# Altium footprint library SOP.PcbLib: 50 footprints (part 1 of 4)
Each footprint in its own frame and in the unit in brackets; x right, y up, seen from the top. Pads: shape width x height; smd on the part's side, far side on the other; paste and mask are expansions set on the pad; w line width, h text height; cw(c..) or ccw(c..) is an arc to the next point about the centre after c.
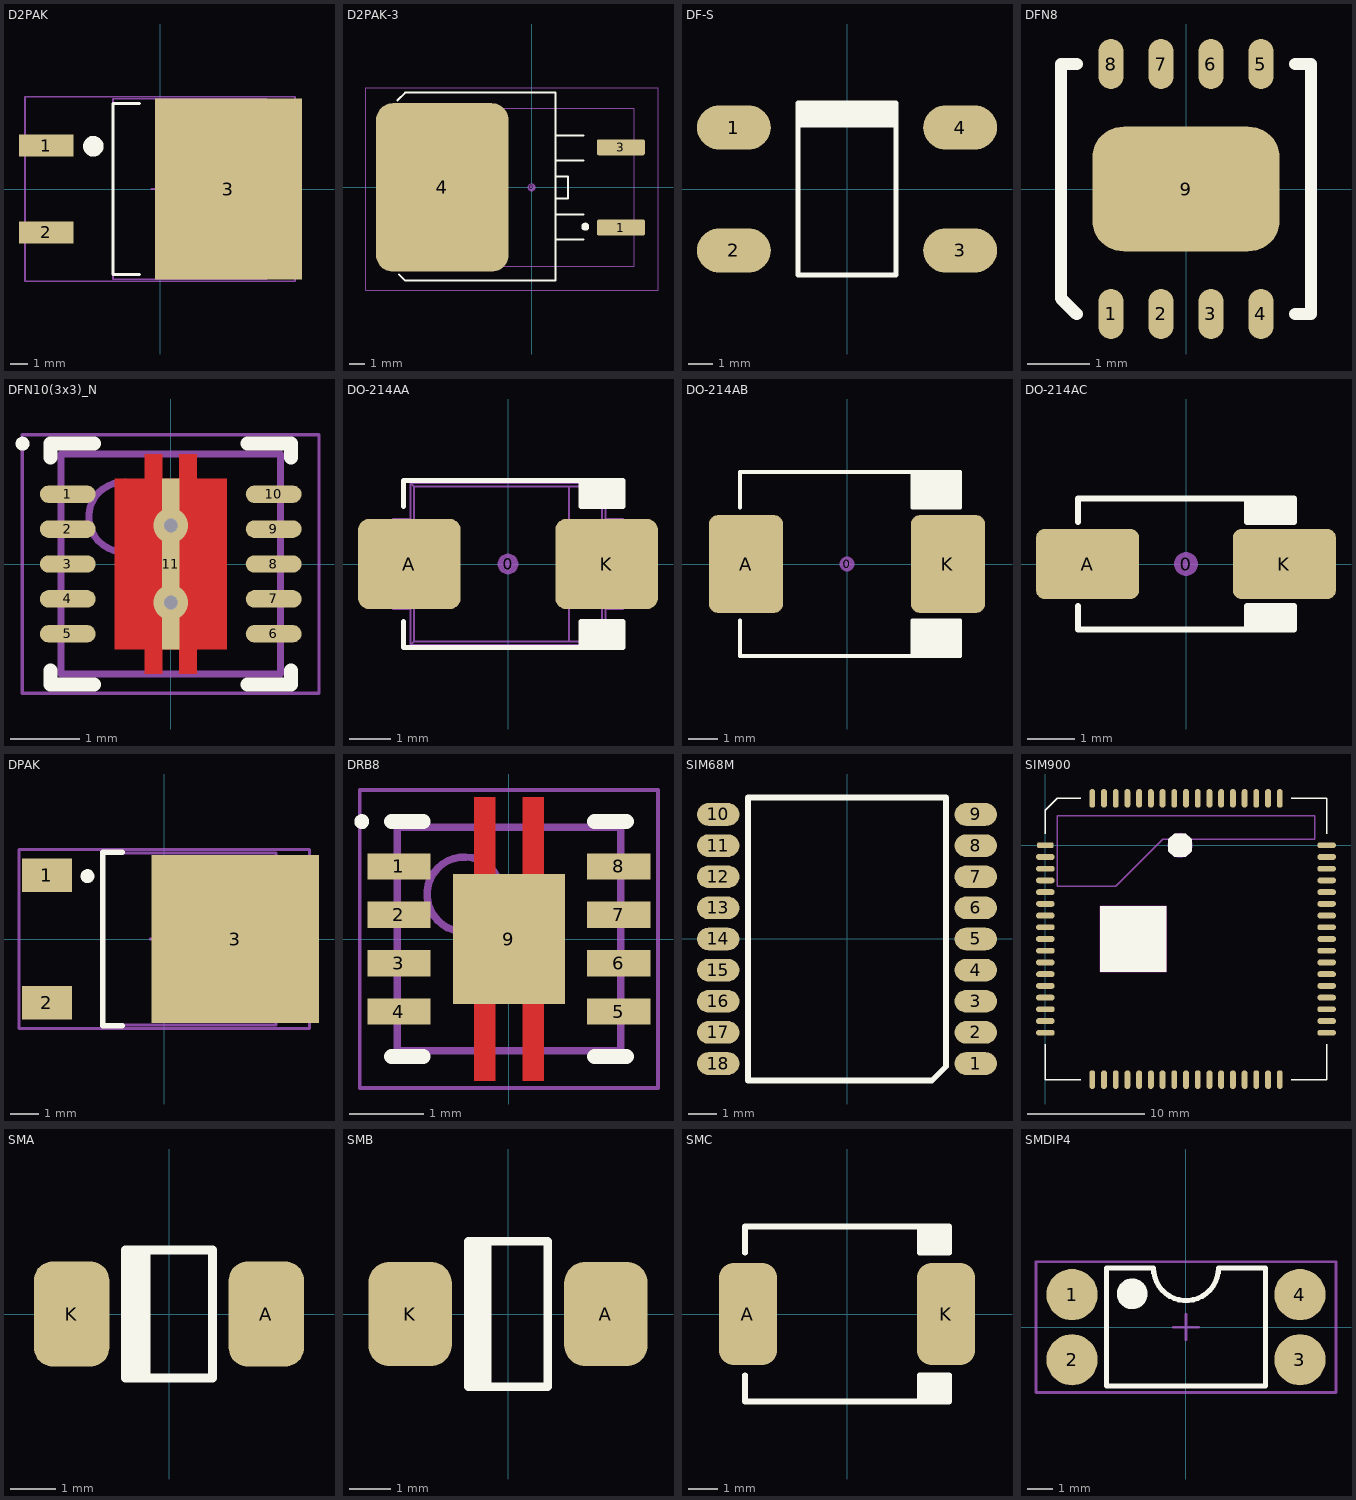
[diagram p0: the footprints below, top view; thin cyan lines are the x and y axes]

## D2PAK [mm] "D2-PAK, 4-Leads, Body 8.8x10.4mm, Pitch 2.54mm, Lead Span 15.1mm, IPC High Density"
height 4.69
pads (3):
  rect 3.2x1.3 smd: 1(-6.65,2.54) 2(-6.65,-2.54)
  rect 8.6x10.6 smd: 3(4,0)
Top Overlay:
  circle w0.6: c-3.9,2.5 r0.3
  lines w0.2: -1.2,-5 -2.75,-5 -2.75,5 -1.2,5
Mechanical 13:
  lines w0.1: -2.75,-5.275 6.25,-5.275 6.25,5.275 -2.75,5.275 -2.75,-5.275
Mechanical 15:
  lines w0.1: -0.5,0 0.5,0 ; 0,-0.5 0,0.5 ; -7.9,-5.4 7.9,-5.4 7.9,5.4 -7.9,5.4 -7.9,-5.4
3D body "SW3dPS-TO263-3S.STEP": height 4.81, standoff 0.01, extent -7.69,-5 7.98,5

## D2PAK-3 [mil] "D-PAK/TO-263-3; 3 Leads (1 Cropped); Body 14.7 (inc. leads) x 10.2 mm (LxW max)"
height 180
pads (4):
  round 20 on Mech15: 0(0,0)
  rrect25% 120x40 smd: 1(222.5,-100) 3(222.5,100)
  rrect25% 330x420 smd: 4(-222.5,0)
Top Overlay:
  circle w9.84: c133.8,-97.83 r4.92
  lines w5: -334.65,216.54 -314.96,236.22 59.06,236.22 59.06,-232.28 -314.96,-232.28 -330.71,-216.54 ; 129.92,-129.92 59.06,-129.92 59.06,-66.93 129.92,-66.93 ; 129.92,66.93 59.06,66.93 59.06,129.92 129.92,129.92 ; 59.06,-27.56 90.55,-27.56 90.55,27.56 59.06,27.56 59.06,-27.56
Mechanical 13:
  lines w3: -361.41,-196.85 -361.41,196.85 255.51,196.85 255.51,-196.85 -361.41,-196.85
Mechanical 15:
  lines w3: -413.39,-255.91 314.96,-255.91 314.96,248.03 -413.39,248.03 -413.39,-255.91
3D body "SW3dPS-TO263-3S.STEP": height 189.36, standoff 0.39, extent -361.41,-196.85 255.51,196.85

## DF-S [mm]
pads (4):
  oval 3x1.8 smd: 1(-4.6,2.5) 2(-4.6,-2.5) 3(4.6,-2.5) 4(4.6,2.5)
Top Overlay:
  rectangle: -2,2.5 2,3.5
  lines w0.2: -2,-3.5 -2,3.5 2,3.5 2,-3.5 -2,-3.5
3D body "SDIP.STEP": height 3.65, standoff 0.02, extent -5,-4.25 5,4.25

## DFN8 [mm]
pads (9):
  oval 0.4x0.8 smd: 1(-1.2,-2) 2(-0.4,-2) 3(0.4,-2) 4(1.2,-2) 5(1.2,2) 6(0.4,2) 7(-0.4,2) 8(-1.2,2)
  rrect50% 3x2 smd: 9(0,0)
Top Overlay:
  lines w0.2: -1.75,-2 -2,-1.75 -2,2 -1.75,2 ; 1.75,-2 2,-2 2,2 1.75,2
3D body: height 1, standoff 0.05, extent -2,-2 2,2

## DFN10(3x3)_N [mm] "SON, 10-Leads, Body 3x3mm, Pitch 0.5mm, Thermal Pad 2.45x1.6mm, IPC Medium Density"
height 1
pads (11):
  oval 0.8x0.25 smd: 1(-1.475,1) 2(-1.475,0.5) 3(-1.475,0) 4(-1.475,-0.5) 5(-1.475,-1) 6(1.475,-1) 7(1.475,-0.5) 8(1.475,0) 9(1.475,0.5) 10(1.475,1)
  rect 0.25x2.45 smd paste+0 mask+0: 11(0,0)
via 0,0.55 diameter 0.5 hole 0.2
via 0,-0.55 diameter 0.5 hole 0.2
Top Layer:
  region: -0.8,-1.225 -0.375,-1.225 -0.375,-1.575 -0.125,-1.575 -0.125,-1.225 0.125,-1.225 0.125,-1.575 0.375,-1.575 0.375,-1.225 0.8,-1.225 0.8,1.225 0.375,1.225 0.375,1.575 0.125,1.575 0.125,1.225 -0.125,1.225 -0.125,1.575 -0.375,1.575 -0.375,1.225 -0.8,1.225
Top Overlay:
  circle w0.1: c-2.125,1.725 r0.05
  lines w0.2: -1.725,-1.525 -1.725,-1.725 -1.1,-1.725 ; -1.725,1.525 -1.725,1.725 -1.1,1.725 ; 1.1,-1.725 1.725,-1.725 1.725,-1.525 ; 1.1,1.725 1.725,1.725 1.725,1.525
Top Solder:
  region: -1.75,1.2 -1.75,-1.2 1.75,-1.2 1.75,1.2
Mechanical 13:
  circle w0.1: c-0.675,0.675 r0.5
  lines w0.1: -1.575,-1.575 -1.575,1.575 1.575,1.575 1.575,-1.575 -1.575,-1.575
Mechanical 15:
  lines w0.05: -2.125,-1.85 -2.125,1.85 2.125,1.85 2.125,-1.85 -2.125,-1.85
  lines w0.1: -0.5,0 0.5,0 ; 0,-0.5 0,0.5
3D body "User Library-DFN-10.STEP": height 0.81, standoff 0.01, extent -1.5,-1.5 1.5,1.5

## DO-214AA [mm] "JEDEC DO214 variation AA. SMB"
height 2.65
pads (3):
  round 0.508 on Mech15: 0(0,0)
  rrect25% 2.5x2.2 smd: A(-2.4,0) K(2.4,0)
Top Overlay:
  region: 1.778,1.397 1.778,2.032 2.794,2.032 2.794,1.397
  region: 1.778,-1.397 1.778,-2.032 2.794,-2.032 2.794,-1.397
  lines w0.127: -2.54,-1.397 -2.54,-2.032 1.778,-2.032 ; -2.54,1.397 -2.54,2.032 1.778,2.032 ; 1.778,-2.032 1.778,-1.397 2.794,-1.397 2.794,-2.032 1.778,-2.032 ; 1.778,2.032 2.794,2.032 2.794,1.397 1.778,1.397 1.778,2.032
Mechanical 13:
  lines w0.05: -2.375,-1.1 -2.375,-1.973 ; -2.375,1.1 -2.375,1.973 ; 2.375,-1.1 2.375,-1.973 ; 2.375,1.1 2.375,1.973 ; -2.375,-1.973 -2.373,-1.975 2.373,-1.975 2.375,-1.973 ; -2.375,-1.973 -2.285,-1.883 ; -2.375,1.973 -2.373,1.975 2.373,1.975 2.375,1.973 ; -2.375,1.973 -2.285,1.883 ; -2.285,-1.883 1.485,-1.884 ; -2.285,-1.883 -2.285,1.883 ; -2.285,1.883 1.485,1.884 ; 1.485,-1.884 2.285,-1.884 ; 1.485,-1.884 1.485,1.884 ; 1.485,1.884 2.285,1.884 ; 2.285,-1.884 2.285,1.884 ; 2.285,-1.884 2.375,-1.973 ; 2.285,1.884 2.375,1.973 ; -2.8,-1.1 -2.356,-1.1 -2.356,1.1 -2.8,1.1 -2.8,-1.1 ; 2.356,-1.1 2.8,-1.1 2.8,1.1 2.356,1.1 2.356,-1.1
3D body "DO-214AA.STEP": height 2.62, standoff 0, extent -2.8,-1.975 2.8,1.975

## DO-214AB [mm] "JEDEC DO214 variation AB. SMC"
height 2.5
pads (3):
  round 0.508 on Mech15: 0(0,0)
  rrect25% 2.5x3.3 smd: A(-3.4,0) K(3.4,0)
Top Overlay:
  rectangle: 2.2,1.9 3.8,3.1
  rectangle: 2.2,-3.1 3.8,-1.9
  lines w0.127: -3.6,-1.9 -3.6,-3.1 3.8,-3.1 3.8,-1.9 2.2,-1.9 2.2,-3.1 ; -3.6,1.9 -3.6,3.1 3.8,3.1 3.8,1.9 2.2,1.9 2.2,3.1
3D body: height 2.62, standoff 0.01, extent -3.975,-2.975 4.05,2.975

## DO-214AC [mm] "JEDEC DO214 variation AC. SMA"
height 2.5
pads (3):
  round 0.508 on Mech15: 0(0,0)
  rrect25% 2.2x1.5 smd: A(-2.1,0) K(2.1,0)
Top Overlay:
  rectangle: 1.3,0.9 2.3,1.4
  rectangle: 1.3,-1.4 2.3,-0.9
  lines w0.127: -2.3,-0.9 -2.3,-1.4 2.3,-1.4 2.3,-0.9 1.3,-0.9 1.3,-1.4 ; -2.3,0.9 -2.3,1.4 2.3,1.4 2.3,0.9 1.3,0.9 ; 1.3,0.911 1.3,1.4
3D body "SW3dPS-DO-214AC SMA.STEP": height 2.42, standoff 0.02, extent -2.6,-1.3 2.6,1.3

## DPAK [mm] "D-PAK, 4-Leads, Body 6.1x6mm, Pitch 2.28mm, Lead Span 9.7mm, IPC High Density"
height 2.03
pads (3):
  rect 1.8x1.2 smd: 1(-4.2,2.28) 2(-4.2,-2.28)
  rect 6x6 smd: 3(2.54,0)
Top Overlay:
  circle w0.25: c-2.75,2.25 r0.125
  lines w0.2: -1.5,-3.1 -2.2,-3.1 -2.2,3.1 -1.5,3.1
Mechanical 13:
  lines w0.1: -2.2,-3.075 -2.2,3.075 4,3.075 4,-3.075 -2.2,-3.075
Mechanical 15:
  lines w0.1: -0.5,0 0.5,0 ; 0,-0.5 0,0.5 ; -5.2,-3.2 -5.2,3.2 5.2,3.2 5.2,-3.2 -5.2,-3.2
3D body "User Library-TO252AA.step": height 2.32, standoff 0.01, extent -4.55,-3.28 5.15,3.3

## DRB8 [mm] "SON, 8-Leads, Body 3x3mm, Pitch 0.65mm, Thermal Pad 1.50 x 3.8mm"
height 1
pads (9):
  rect 0.85x0.35 smd: 1(-1.475,0.975) 2(-1.475,0.325) 3(-1.475,-0.325) 4(-1.475,-0.975) 5(1.475,-0.975) 6(1.475,-0.325) 7(1.475,0.325) 8(1.475,0.975)
  rect 1.5x1.75 smd: 9(0,0)
Top Layer:
  region: 0.185,0.875 0.185,1.9 0.465,1.9 0.465,0.875
  region: -0.185,-0.875 -0.185,-1.9 -0.465,-1.9 -0.465,-0.875
  region: 0.185,-0.875 0.185,-1.9 0.465,-1.9 0.465,-0.875
  region: -0.185,0.875 -0.185,1.9 -0.465,1.9 -0.465,0.875
Top Overlay:
  circle w0.1: c-1.975,1.575 r0.05
  lines w0.2: -1.575,-1.575 -1.15,-1.575 ; -1.575,1.575 -1.15,1.575 ; 1.15,-1.575 1.575,-1.575 ; 1.15,1.575 1.575,1.575
Top Paste:
  region: -0.185,0.875 -0.185,1.9 -0.465,1.9 -0.465,0.875
  region: 0.185,-0.875 0.185,-1.9 0.465,-1.9 0.465,-0.875
  region: -0.185,-0.875 -0.185,-1.9 -0.465,-1.9 -0.465,-0.875
  region: 0.185,0.875 0.185,1.9 0.465,1.9 0.465,0.875
Mechanical 13:
  circle w0.1: c-0.6,0.6 r0.5
  lines w0.1: -1.5,-1.5 -1.5,1.5 1.5,1.5 1.5,-1.5 -1.5,-1.5
Mechanical 15:
  lines w0.05: -2,-2 2,-2 2,-1.675 2,1.675 2,2 -2,2 -2,1.675 -2,-1.675 -2,-2
  lines w0.1: -0.5,0 0.5,0 ; 0,-0.5 0,0.5
3D body: height 1, standoff 0, extent -1.5,-1.5 1.5,1.5

## SIM68M [mm]
pads (18):
  oval 1.5x0.8 smd: 1(4.55,-4.4) 2(4.55,-3.3) 3(4.55,-2.2) 4(4.55,-1.1) 5(4.55,0) 6(4.55,1.1) 7(4.55,2.2) 8(4.55,3.3) 9(4.55,4.4) 10(-4.55,4.4) 11(-4.55,3.3) 12(-4.55,2.2) 13(-4.55,1.1) 14(-4.55,0) 15(-4.55,-1.1) 16(-4.55,-2.2) 17(-4.55,-3.3) 18(-4.55,-4.4)
Top Overlay:
  lines w0.2: -3.5,-5 3,-5 3.5,-4.5 3.5,5 -3.5,5 -3.5,-5
3D body "User Library-QUECTEL L76.step": height 2.52, standoff 0, extent -4.85,-5.05 4.85,5.05

## SIM900 [mm] "PCB for sim900"
height 3
pads (68):
  rrect50% 1.4x0.5 smd: 1(0,0)
  oval 1.6x0.5 smd: 2(0,-1) 3(0,-2) 4(0,-3) 5(0,-4) 6(0,-5) 7(0,-6) 8(0,-7) 9(0,-8) 10(0,-9) 11(0,-10) 12(0,-11) 13(0,-12) 14(0,-13) 15(0,-14) 16(0,-15) 17(0,-16) 35(24,-16) 36(24,-15) 37(24,-14) 38(24,-13) 39(24,-12) 40(24,-11) 41(24,-10) 42(24,-9) 43(24,-8) 44(24,-7) 45(24,-6) 46(24,-5) 47(24,-4) 48(24,-3) 49(24,-2) 50(24,-1) 51(24,0)
  oval 0.5x1.6 smd: 18(4,-20) 19(5,-20) 20(6,-20) 21(7,-20) 22(8,-20) 23(9,-20) 24(10,-20) 25(11,-20) 26(12,-20) 27(13,-20) 28(14,-20) 29(15,-20) 30(16,-20) 31(17,-20) 32(18,-20) 33(19,-20) 34(20,-20) 52(20,4) 53(19,4) 54(18,4) 55(17,4) 56(16,4) 57(15,4) 58(14,4) 59(13,4) 60(12,4) 61(11,4) 62(10,4) 63(9,4) 64(8,4) 65(7,4) 66(6,4) 67(5,4) 68(4,4)
Top Overlay:
  region: 10.5,0.5 11,1 12,1 12.5,0.5 12.5,-0.5 12,-1 11,-1 10.5,-0.5
  region: 4.7,-5.2 10.3,-5.2 10.3,-10.8 4.7,-10.8
  lines w0.127: 0,-17 0,-20 3,-20 ; 0,1 0,3 1,4 3,4 ; 21,-20 24,-20 24,-17 ; 21,4 24,4 24,1
Keep-Out Layer:
  lines w0.127: 4.7,-10.8 4.7,-5.2 10.3,-5.2 10.3,-10.8 4.7,-10.8
Mechanical 13:
  circle w0.127: c11.5,0 r1.005
  lines w0.127: 1,-3.5 1,2.5 23,2.5 23,0.5 10,0.5 6,-3.5 1,-3.5
3D body: height 1, standoff 0, extent -0.001,-20.001 24.001,4.001
3D body: height 3, standoff 1, extent 0.736,-19.263 23.264,3.264
3D body: height 1.01, standoff 1, extent -0.001,0.499 3.501,4.001
3D body: height 3.01, standoff 3, extent 0.937,-19.064 23.063,3.063
3D body: height 3.02, standoff 3.01, extent 0.999,-3.501 23.001,2.501

## SMA [mm]
pads (2):
  rrect50% 1.65x2.3 smd: A(2.13,0) K(-2.13,0)
Top Overlay:
  rectangle: -0.95,-1.4 -0.4,1.4
  lines w0.2: -0.95,-1.4 -0.95,1.4 0.95,1.4 0.95,-1.4 -0.95,-1.4
3D body "DO-214AC(SMA).STEP": height 2.3, standoff 0.02, extent -2.743,-1.397 2.743,1.397

## SMB [mm]
pads (2):
  rrect50% 2x2.5 smd: A(2.35,0) K(-2.35,0)
Top Overlay:
  rectangle: -0.95,-1.75 -0.4,1.75
  lines w0.2: -0.95,-1.75 0.95,-1.75 0.95,1.75 -0.95,1.75 -0.95,-1.75
3D body "SMB.STEP": height 2.32, standoff 0.02, extent -2.7,-1.8 2.7,1.8

## SMC [mm] "DO-214AB"
height 2.62
pads (2):
  rrect50% 2x3.5 smd mask+0.1: A(-3.4,0) K(3.4,0)
Top Overlay:
  region: 3.5,-2.1 2.5,-2.1 2.5,-3 3.5,-3
  region: 3.5,3 2.5,3 2.5,2.1 3.5,2.1
  lines w0.2: -3.5,-2.1 -3.5,-3 3.5,-3 3.5,-2.1 2.5,-2.1 2.5,-3 ; -3.5,2.1 -3.5,3 3.5,3 3.5,2.1 2.5,2.1 2.5,3
3D body "User Library-DO-214AB SMC.step": height 2.32, standoff 0.02, extent -3.975,-2.95 3.975,2.95

## SMDIP4 [mm] "SOP, 4-Leads, Body 4,6x6,5mm (max), Pitch 2,54mm, IPC Medium Density"
height 4.5
pads (4):
  round 2 smd: 1(-4.445,1.27) 2(-4.445,-1.27) 3(4.445,-1.27) 4(4.445,1.27)
Top Overlay:
  circle w0.6: c-2.1,1.3 r0.3
  lines w0.2: -3.1,2.3 -3.1,-2.3 3.1,-2.3 3.1,2.3 ; -3.1,2.305 -1.27,2.305 ccw(c0,2.305) 1.27,2.305 3.1,2.305
Mechanical 15:
  lines w0.1: -0.5,0 0.5,0 ; 0,-0.5 0,0.5 ; -5.85,-2.55 5.85,-2.55 5.85,2.55 -5.85,2.55 -5.85,-2.55
3D body "User Library-PC817_Gullwing.STEP": height 3.87, standoff 0.02, extent -5,-2.29 5,2.29